# Altium schematic symbol library 数字电位器.SchLib: 2 symbols
Pins are listed as number, name and electrical type; pins without a type are passive.

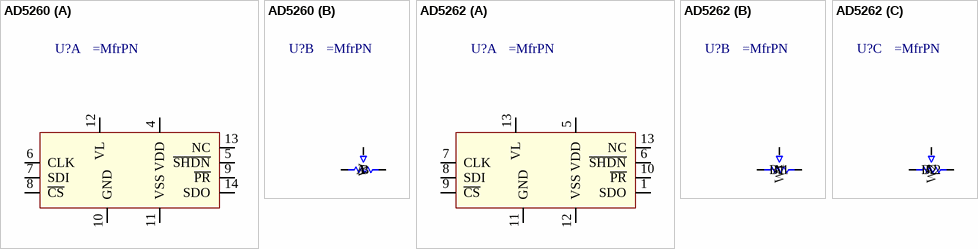
[diagram p0: symbols AD5260 to AD5262]

## AD5260
designator U?
part A pins: 4 VDD, 5 ~{SHDN}, 6 CLK, 7 SDI, 8 ~{CS}, 9 ~{PR}, 10 GND, 11 VSS, 12 VL, 13 NC, 14 SDO
part B pins: 1 A, 2 W, 3 B

## AD5262
designator U?
part A pins: 1 SDO, 5 VDD, 6 ~{SHDN}, 7 CLK, 8 SDI, 9 ~{CS}, 10 ~{PR}, 11 GND, 12 VSS, 13 NC, 13 VL
part B pins: 2 A1, 3 W1, 4 B1
part C pins: 14 B2, 15 W2, 16 A2